# Altium schematic symbol library SCH - CONNECTORS - 4 PIN.SCHLIB: 2 symbols
Pins are listed as number, name and electrical type; pins without a type are passive.

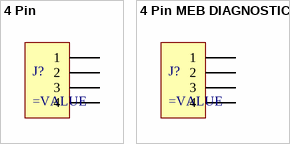
[diagram p0: symbols 4 Pin to 4 Pin MEB DIAGNOSTIC]

## 4 Pin
designator J?
pins: 1, 2, 3, 4
1 alternate drawing of the same symbol

## 4 Pin MEB DIAGNOSTIC
designator J?
pins: 1, 2, 3, 4
1 alternate drawing of the same symbol